# Altium integrated library WE-TIF_4_rev16a.intlib: 33 symbols
Pins are listed as number, name and electrical type; pins without a type are passive.

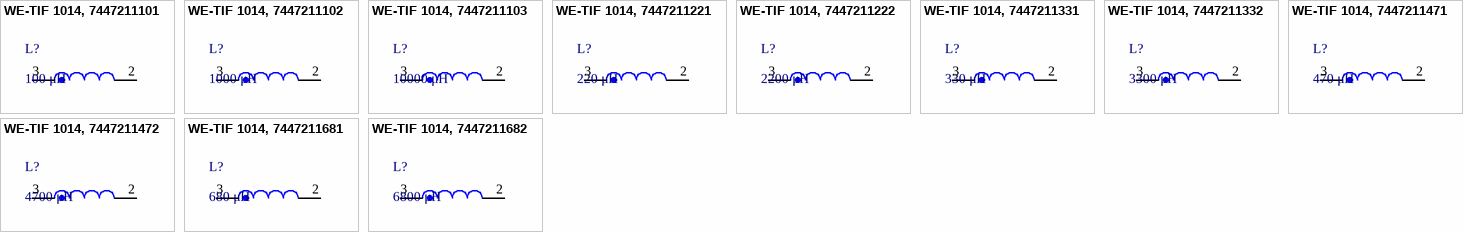
[diagram p0: symbols WE-TIF 1014, 7447211101 to WE-TIF 1014, 7447211682]

## WE-TIF 1014, 7447211101
designator L?, comment 100 μH
WE-TIF Radial Leaded Wire Wound Inductor, Inductance = 100 μH; partNo: 7447211101; Manufacturer: Wurth Elektronik; Inductance: 100 μH; ComponentLink1Description: Manufacturer; ComponentLink1URL: http://www.we-online.de; Created by: Baojun Chen; Created Date: Nov.2015; ComponentLink2Description: Datasheet; ComponentLink2URL: http://katalog.we-online.de/pbs/datasheet/7447211101.pdf
footprint WE-TIF_1014
pins: 2, 3

## WE-TIF 1014, 7447211102
designator L?, comment 1000 μH
WE-TIF Radial Leaded Wire Wound Inductor, Inductance = 1000 μH; partNo: 7447211102; Manufacturer: Wurth Elektronik; Inductance: 1000 μH; ComponentLink1Description: Manufacturer; ComponentLink1URL: http://www.we-online.de; Created by: Baojun Chen; Created Date: Nov.2015; ComponentLink2Description: Datasheet; ComponentLink2URL: http://katalog.we-online.de/pbs/datasheet/7447211102.pdf
footprint WE-TIF_1014
pins: 2, 3

## WE-TIF 1014, 7447211103
designator L?, comment 10000 μH
WE-TIF Radial Leaded Wire Wound Inductor, Inductance = 10000 μH; partNo: 7447211103; Manufacturer: Wurth Elektronik; Inductance: 10000 μH; ComponentLink1Description: Manufacturer; ComponentLink1URL: http://www.we-online.de; Created by: Baojun Chen; Created Date: Nov.2015; ComponentLink2Description: Datasheet; ComponentLink2URL: http://katalog.we-online.de/pbs/datasheet/7447211103.pdf
footprint WE-TIF_1014
pins: 2, 3

## WE-TIF 1014, 7447211221
designator L?, comment 220 μH
WE-TIF Radial Leaded Wire Wound Inductor, Inductance = 220 μH; partNo: 7447211221; Manufacturer: Wurth Elektronik; Inductance: 220 μH; ComponentLink1Description: Manufacturer; ComponentLink1URL: http://www.we-online.de; Created by: Baojun Chen; Created Date: Nov.2015; ComponentLink2Description: Datasheet; ComponentLink2URL: http://katalog.we-online.de/pbs/datasheet/7447211221.pdf
footprint WE-TIF_1014
pins: 2, 3

## WE-TIF 1014, 7447211222
designator L?, comment 2200 μH
WE-TIF Radial Leaded Wire Wound Inductor, Inductance = 2200 μH; partNo: 7447211222; Manufacturer: Wurth Elektronik; Inductance: 2200 μH; ComponentLink1Description: Manufacturer; ComponentLink1URL: http://www.we-online.de; Created by: Baojun Chen; Created Date: Nov.2015; ComponentLink2Description: Datasheet; ComponentLink2URL: http://katalog.we-online.de/pbs/datasheet/7447211222.pdf
footprint WE-TIF_1014
pins: 2, 3

## WE-TIF 1014, 7447211331
designator L?, comment 330 μH
WE-TIF Radial Leaded Wire Wound Inductor, Inductance = 330 μH; partNo: 7447211331; Manufacturer: Wurth Elektronik; Inductance: 330 μH; ComponentLink1Description: Manufacturer; ComponentLink1URL: http://www.we-online.de; Created by: Baojun Chen; Created Date: Nov.2015; ComponentLink2Description: Datasheet; ComponentLink2URL: http://katalog.we-online.de/pbs/datasheet/7447211331.pdf
footprint WE-TIF_1014
pins: 2, 3

## WE-TIF 1014, 7447211332
designator L?, comment 3300 μH
WE-TIF Radial Leaded Wire Wound Inductor, Inductance = 3300 μH; partNo: 7447211332; Manufacturer: Wurth Elektronik; Inductance: 3300 μH; ComponentLink1Description: Manufacturer; ComponentLink1URL: http://www.we-online.de; Created by: Baojun Chen; Created Date: Nov.2015; ComponentLink2Description: Datasheet; ComponentLink2URL: http://katalog.we-online.de/pbs/datasheet/7447211332.pdf
footprint WE-TIF_1014
pins: 2, 3

## WE-TIF 1014, 7447211471
designator L?, comment 470 μH
WE-TIF Radial Leaded Wire Wound Inductor, Inductance = 470 μH; partNo: 7447211471; Manufacturer: Wurth Elektronik; Inductance: 470 μH; ComponentLink1Description: Manufacturer; ComponentLink1URL: http://www.we-online.de; Created by: Baojun Chen; Created Date: Nov.2015; ComponentLink2Description: Datasheet; ComponentLink2URL: http://katalog.we-online.de/pbs/datasheet/7447211471.pdf
footprint WE-TIF_1014
pins: 2, 3

## WE-TIF 1014, 7447211472
designator L?, comment 4700 μH
WE-TIF Radial Leaded Wire Wound Inductor, Inductance = 4700 μH; partNo: 7447211472; Manufacturer: Wurth Elektronik; Inductance: 4700 μH; ComponentLink1Description: Manufacturer; ComponentLink1URL: http://www.we-online.de; Created by: Baojun Chen; Created Date: Nov.2015; ComponentLink2Description: Datasheet; ComponentLink2URL: http://katalog.we-online.de/pbs/datasheet/7447211472.pdf
footprint WE-TIF_1014
pins: 2, 3

## WE-TIF 1014, 7447211681
designator L?, comment 680 μH
WE-TIF Radial Leaded Wire Wound Inductor, Inductance = 680 μH; partNo: 7447211681; Manufacturer: Wurth Elektronik; Inductance: 680 μH; ComponentLink1Description: Manufacturer; ComponentLink1URL: http://www.we-online.de; Created by: Baojun Chen; Created Date: Nov.2015; ComponentLink2Description: Datasheet; ComponentLink2URL: http://katalog.we-online.de/pbs/datasheet/7447211681.pdf
footprint WE-TIF_1014
pins: 2, 3

## WE-TIF 1014, 7447211682
designator L?, comment 6800 μH
WE-TIF Radial Leaded Wire Wound Inductor, Inductance = 6800 μH; partNo: 7447211682; Manufacturer: Wurth Elektronik; Inductance: 6800 μH; ComponentLink1Description: Manufacturer; ComponentLink1URL: http://www.we-online.de; Created by: Baojun Chen; Created Date: Nov.2015; ComponentLink2Description: Datasheet; ComponentLink2URL: http://katalog.we-online.de/pbs/datasheet/7447211682.pdf
footprint WE-TIF_1014
pins: 2, 3


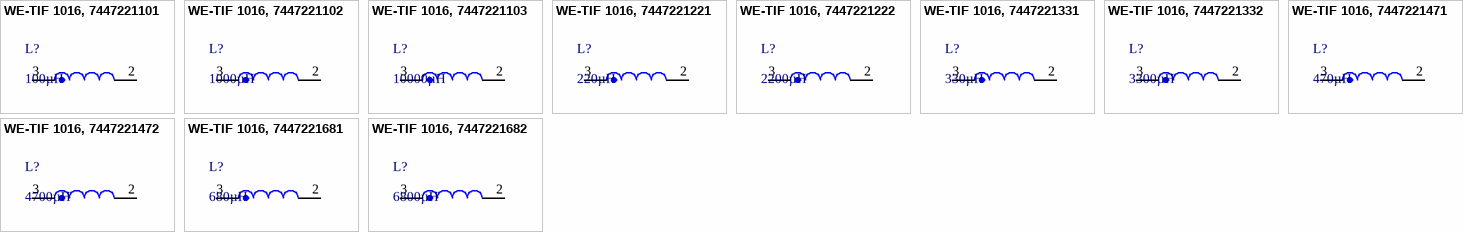
[diagram p1: symbols WE-TIF 1016, 7447221101 to WE-TIF 1016, 7447221682]

## WE-TIF 1016, 7447221101
designator L?, comment 100µH
WE-TIF Radial Leaded Wire Wound Inductor with 4 Pins, L= 100µH; partNo: 7447221101; Manufacturer: Wurth Elektronik; Inductance: 100µH; ComponentLink1Description: Manufacturer; ComponentLink1URL: http://www.we-online.de; Created by: Baojun Chen; Created Date: Jan.2016; ComponentLink2Description: Datasheet; ComponentLink2URL: http://katalog.we-online.de/pbs/datasheet/7447221101.pdf
footprint WE-TIF_1016
pins: 2, 3

## WE-TIF 1016, 7447221102
designator L?, comment 1000µH
WE-TIF Radial Leaded Wire Wound Inductor with 4 Pins, L= 1000µH; partNo: 7447221102; Manufacturer: Wurth Elektronik; Inductance: 1000µH; ComponentLink1Description: Manufacturer; ComponentLink1URL: http://www.we-online.de; Created by: Baojun Chen; Created Date: Jan.2016; ComponentLink2Description: Datasheet; ComponentLink2URL: http://katalog.we-online.de/pbs/datasheet/7447221102.pdf
footprint WE-TIF_1016
pins: 2, 3

## WE-TIF 1016, 7447221103
designator L?, comment 10000µH
WE-TIF Radial Leaded Wire Wound Inductor with 4 Pins, L= 10000µH; partNo: 7447221103; Manufacturer: Wurth Elektronik; Inductance: 10000µH; ComponentLink1Description: Manufacturer; ComponentLink1URL: http://www.we-online.de; Created by: Baojun Chen; Created Date: Jan.2016; ComponentLink2Description: Datasheet; ComponentLink2URL: http://katalog.we-online.de/pbs/datasheet/7447221103.pdf
footprint WE-TIF_1016
pins: 2, 3

## WE-TIF 1016, 7447221221
designator L?, comment 220µH
WE-TIF Radial Leaded Wire Wound Inductor with 4 Pins, L= 220µH; partNo: 7447221221; Manufacturer: Wurth Elektronik; Inductance: 220µH; ComponentLink1Description: Manufacturer; ComponentLink1URL: http://www.we-online.de; Created by: Baojun Chen; Created Date: Jan.2016; ComponentLink2Description: Datasheet; ComponentLink2URL: http://katalog.we-online.de/pbs/datasheet/7447221221.pdf
footprint WE-TIF_1016
pins: 2, 3

## WE-TIF 1016, 7447221222
designator L?, comment 2200µH
WE-TIF Radial Leaded Wire Wound Inductor with 4 Pins, L= 2200µH; partNo: 7447221222; Manufacturer: Wurth Elektronik; Inductance: 2200µH; ComponentLink1Description: Manufacturer; ComponentLink1URL: http://www.we-online.de; Created by: Baojun Chen; Created Date: Jan.2016; ComponentLink2Description: Datasheet; ComponentLink2URL: http://katalog.we-online.de/pbs/datasheet/7447221222.pdf
footprint WE-TIF_1016
pins: 2, 3

## WE-TIF 1016, 7447221331
designator L?, comment 330µH
WE-TIF Radial Leaded Wire Wound Inductor with 4 Pins, L= 330µH; partNo: 7447221331; Manufacturer: Wurth Elektronik; Inductance: 330µH; ComponentLink1Description: Manufacturer; ComponentLink1URL: http://www.we-online.de; Created by: Baojun Chen; Created Date: Jan.2016; ComponentLink2Description: Datasheet; ComponentLink2URL: http://katalog.we-online.de/pbs/datasheet/7447221331.pdf
footprint WE-TIF_1016
pins: 2, 3

## WE-TIF 1016, 7447221332
designator L?, comment 3300µH
WE-TIF Radial Leaded Wire Wound Inductor with 4 Pins, L= 3300µH; partNo: 7447221332; Manufacturer: Wurth Elektronik; Inductance: 3300µH; ComponentLink1Description: Manufacturer; ComponentLink1URL: http://www.we-online.de; Created by: Baojun Chen; Created Date: Jan.2016; ComponentLink2Description: Datasheet; ComponentLink2URL: http://katalog.we-online.de/pbs/datasheet/7447221332.pdf
footprint WE-TIF_1016
pins: 2, 3

## WE-TIF 1016, 7447221471
designator L?, comment 470µH
WE-TIF Radial Leaded Wire Wound Inductor with 4 Pins, L= 470µH; partNo: 7447221471; Manufacturer: Wurth Elektronik; Inductance: 470µH; ComponentLink1Description: Manufacturer; ComponentLink1URL: http://www.we-online.de; Created by: Baojun Chen; Created Date: Jan.2016; ComponentLink2Description: Datasheet; ComponentLink2URL: http://katalog.we-online.de/pbs/datasheet/7447221471.pdf
footprint WE-TIF_1016
pins: 2, 3

## WE-TIF 1016, 7447221472
designator L?, comment 4700µH
WE-TIF Radial Leaded Wire Wound Inductor with 4 Pins, L= 4700µH; partNo: 7447221472; Manufacturer: Wurth Elektronik; Inductance: 4700µH; ComponentLink1Description: Manufacturer; ComponentLink1URL: http://www.we-online.de; Created by: Baojun Chen; Created Date: Jan.2016; ComponentLink2Description: Datasheet; ComponentLink2URL: http://katalog.we-online.de/pbs/datasheet/7447221472.pdf
footprint WE-TIF_1016
pins: 2, 3

## WE-TIF 1016, 7447221681
designator L?, comment 680µH
WE-TIF Radial Leaded Wire Wound Inductor with 4 Pins, L= 680µH; partNo: 7447221681; Manufacturer: Wurth Elektronik; Inductance: 680µH; ComponentLink1Description: Manufacturer; ComponentLink1URL: http://www.we-online.de; Created by: Baojun Chen; Created Date: Jan.2016; ComponentLink2Description: Datasheet; ComponentLink2URL: http://katalog.we-online.de/pbs/datasheet/7447221681.pdf
footprint WE-TIF_1016
pins: 2, 3

## WE-TIF 1016, 7447221682
designator L?, comment 6800µH
WE-TIF Radial Leaded Wire Wound Inductor with 4 Pins, L= 6800µH; partNo: 7447221682; Manufacturer: Wurth Elektronik; Inductance: 6800µH; ComponentLink1Description: Manufacturer; ComponentLink1URL: http://www.we-online.de; Created by: Baojun Chen; Created Date: Jan.2016; ComponentLink2Description: Datasheet; ComponentLink2URL: http://katalog.we-online.de/pbs/datasheet/7447221682.pdf
footprint WE-TIF_1016
pins: 2, 3


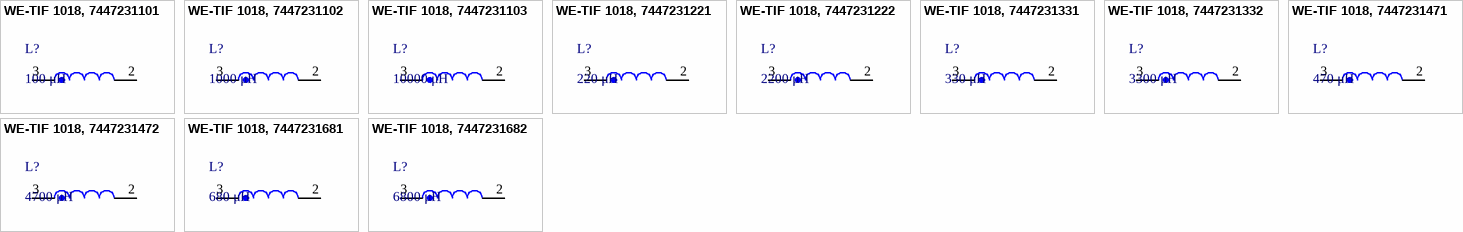
[diagram p2: symbols WE-TIF 1018, 7447231101 to WE-TIF 1018, 7447231682]

## WE-TIF 1018, 7447231101
designator L?, comment 100 μH
WE-TIF Radial Leaded Wire Wound Inductor, Inductance = 100 μH; partNo: 7447231101; Manufacturer: Wurth Elektronik; Inductance: 100 μH; ComponentLink1Description: Manufacturer; ComponentLink1URL: http://www.we-online.de; Created by: Baojun Chen; Created Date: Nov.2015; ComponentLink2Description: Datasheet; ComponentLink2URL: http://katalog.we-online.de/pbs/datasheet/7447231101.pdf
footprint WE-TIF_1018
pins: 2, 3

## WE-TIF 1018, 7447231102
designator L?, comment 1000 μH
WE-TIF Radial Leaded Wire Wound Inductor, Inductance = 1000 μH; partNo: 7447231102; Manufacturer: Wurth Elektronik; Inductance: 1000 μH; ComponentLink1Description: Manufacturer; ComponentLink1URL: http://www.we-online.de; Created by: Baojun Chen; Created Date: Nov.2015; ComponentLink2Description: Datasheet; ComponentLink2URL: http://katalog.we-online.de/pbs/datasheet/7447231102.pdf
footprint WE-TIF_1018
pins: 2, 3

## WE-TIF 1018, 7447231103
designator L?, comment 10000 μH
WE-TIF Radial Leaded Wire Wound Inductor, Inductance = 10000 μH; partNo: 7447231103; Manufacturer: Wurth Elektronik; Inductance: 10000 μH; ComponentLink1Description: Manufacturer; ComponentLink1URL: http://www.we-online.de; Created by: Baojun Chen; Created Date: Nov.2015; ComponentLink2Description: Datasheet; ComponentLink2URL: http://katalog.we-online.de/pbs/datasheet/7447231103.pdf
footprint WE-TIF_1018
pins: 2, 3

## WE-TIF 1018, 7447231221
designator L?, comment 220 μH
WE-TIF Radial Leaded Wire Wound Inductor, Inductance = 220 μH; partNo: 7447231221; Manufacturer: Wurth Elektronik; Inductance: 220 μH; ComponentLink1Description: Manufacturer; ComponentLink1URL: http://www.we-online.de; Created by: Baojun Chen; Created Date: Nov.2015; ComponentLink2Description: Datasheet; ComponentLink2URL: http://katalog.we-online.de/pbs/datasheet/7447231221.pdf
footprint WE-TIF_1018
pins: 2, 3

## WE-TIF 1018, 7447231222
designator L?, comment 2200 μH
WE-TIF Radial Leaded Wire Wound Inductor, Inductance = 2200 μH; partNo: 7447231222; Manufacturer: Wurth Elektronik; Inductance: 2200 μH; ComponentLink1Description: Manufacturer; ComponentLink1URL: http://www.we-online.de; Created by: Baojun Chen; Created Date: Nov.2015; ComponentLink2Description: Datasheet; ComponentLink2URL: http://katalog.we-online.de/pbs/datasheet/7447231222.pdf
footprint WE-TIF_1018
pins: 2, 3

## WE-TIF 1018, 7447231331
designator L?, comment 330 μH
WE-TIF Radial Leaded Wire Wound Inductor, Inductance = 330 μH; partNo: 7447231331; Manufacturer: Wurth Elektronik; Inductance: 330 μH; ComponentLink1Description: Manufacturer; ComponentLink1URL: http://www.we-online.de; Created by: Baojun Chen; Created Date: Nov.2015; ComponentLink2Description: Datasheet; ComponentLink2URL: http://katalog.we-online.de/pbs/datasheet/7447231331.pdf
footprint WE-TIF_1018
pins: 2, 3

## WE-TIF 1018, 7447231332
designator L?, comment 3300 μH
WE-TIF Radial Leaded Wire Wound Inductor, Inductance = 3300 μH; partNo: 7447231332; Manufacturer: Wurth Elektronik; Inductance: 3300 μH; ComponentLink1Description: Manufacturer; ComponentLink1URL: http://www.we-online.de; Created by: Baojun Chen; Created Date: Nov.2015; ComponentLink2Description: Datasheet; ComponentLink2URL: http://katalog.we-online.de/pbs/datasheet/7447231332.pdf
footprint WE-TIF_1018
pins: 2, 3

## WE-TIF 1018, 7447231471
designator L?, comment 470 μH
WE-TIF Radial Leaded Wire Wound Inductor, Inductance = 470 μH; partNo: 7447231471; Manufacturer: Wurth Elektronik; Inductance: 470 μH; ComponentLink1Description: Manufacturer; ComponentLink1URL: http://www.we-online.de; Created by: Baojun Chen; Created Date: Nov.2015; ComponentLink2Description: Datasheet; ComponentLink2URL: http://katalog.we-online.de/pbs/datasheet/7447231471.pdf
footprint WE-TIF_1018
pins: 2, 3

## WE-TIF 1018, 7447231472
designator L?, comment 4700 μH
WE-TIF Radial Leaded Wire Wound Inductor, Inductance = 4700 μH; partNo: 7447231472; Manufacturer: Wurth Elektronik; Inductance: 4700 μH; ComponentLink1Description: Manufacturer; ComponentLink1URL: http://www.we-online.de; Created by: Baojun Chen; Created Date: Nov.2015; ComponentLink2Description: Datasheet; ComponentLink2URL: http://katalog.we-online.de/pbs/datasheet/7447231472.pdf
footprint WE-TIF_1018
pins: 2, 3

## WE-TIF 1018, 7447231681
designator L?, comment 680 μH
WE-TIF Radial Leaded Wire Wound Inductor, Inductance = 680 μH; partNo: 7447231681; Manufacturer: Wurth Elektronik; Inductance: 680 μH; ComponentLink1Description: Manufacturer; ComponentLink1URL: http://www.we-online.de; Created by: Baojun Chen; Created Date: Nov.2015; ComponentLink2Description: Datasheet; ComponentLink2URL: http://katalog.we-online.de/pbs/datasheet/7447231681.pdf
footprint WE-TIF_1018
pins: 2, 3

## WE-TIF 1018, 7447231682
designator L?, comment 6800 μH
WE-TIF Radial Leaded Wire Wound Inductor, Inductance = 6800 μH; partNo: 7447231682; Manufacturer: Wurth Elektronik; Inductance: 6800 μH; ComponentLink1Description: Manufacturer; ComponentLink1URL: http://www.we-online.de; Created by: Baojun Chen; Created Date: Nov.2015; ComponentLink2Description: Datasheet; ComponentLink2URL: http://katalog.we-online.de/pbs/datasheet/7447231682.pdf
footprint WE-TIF_1018
pins: 2, 3